# Altium schematic symbol library Grayhill.SchLib: 1 symbol
Pins are listed as number, name and electrical type; pins without a type are passive.

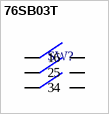
[diagram p0: symbol 76SB03T]

## 76SB03T
designator SW?, comment 3POS DIP SWITCH  (value not drawn)
GRAYHILL - 76SB03T - COMMUT. SPST, 3 POS, RAISED ROCKER; Body Material: Thermoplastic; Mechanical Life: 2000Cycles; Max Voltage Rating (DC): 30V; Number of Positions: 3; Max Current Rating: 150mA; Pitch: 0.1inch; Actuator Length: 0.58mm; Washable: No; Supplier 1: Digi-Key; Supplier Part Number 1: GH7168-ND; Manufacturer: Grayhill; Manufacturer Part Number: 76SB03T; Stock 1: 2019; Pricing 1: 1 = 1.14000, 10 = 1.11800, 25 = 1.05360, 50 = 0.98900, 100 = 0.94600, 250 = 0.90300, 500 = 0.81700, 1000 = 0.75250, 5000 = 0.61275 (USD); RoHS: Yes; Mount: Through Hole,PCB; Contact Material: Copper Alloy,Gold; Contact Plating: Gold; Min Operating Temperature: -40°C; Max Operating Temperature: 85°C; Throw Configuration: SPST; Termination: PC Pins; Packaging: Rail/Tube; Voltage Rating (DC): 30V; Current Rating: 150mA; Electrical Life: 2000Cycles; Contact Current Rating: 150mA; Number of Circuits: 3; Orientation: Straight; Actuator Type: Rocker; Length: 0.38inch; Depth: 9.65mm; Terminal Pitch: 2.54mm; Radiation Hardening: No; REACH SVHC: No SVHC; Lead Free: Lead Free; ComponentLink1URL: https://datasheet.ciiva.com/7988/1884225-7988328.pdf?src-supplier=Element14; ComponentLink1Description: https://datasheet.ciiva.com/7988/1884225-7988328.pdf?src-supplier=Element14; ComponentLink2URL: https://datasheet.ciiva.com/16862/70216655-16862712.pdf?src-supplier=Allied+Electronics; ComponentLink2Description: https://datasheet.ciiva.com/16862/70216655-16862712.pdf?src-supplier=Allied+Electronics; ComponentLink3URL: https://datasheet.ciiva.com/2863/dip-series-76-spst-2863817.pdf?src-supplier=Digi-Key; ComponentLink3Description: https://datasheet.ciiva.com/2863/dip-series-76-spst-2863817.pdf?src-supplier=Digi-Key; ComponentLink4URL: https://datasheet.ciiva.com/16339/dip-series-76-spst-16339791.pdf?src-supplier=Future+Electronics; ComponentLink4Description: https://datasheet.ciiva.com/16339/dip-series-76-spst-16339791.pdf?src-supplier=Future+Electronics
footprint 3POS DIP SWITCH 76SB03T
pins: 1, 2, 3, 4, 5, 6